# Altium footprint library AP3032KTR-G1.PcbLib: 1 footprints
Each footprint in its own frame and in the unit in brackets; x right, y up, seen from the top. Pads: shape width x height; smd on the part's side, far side on the other; paste and mask are expansions set on the pad; w line width, h text height; cw(c..) or ccw(c..) is an arc to the next point about the centre after c.
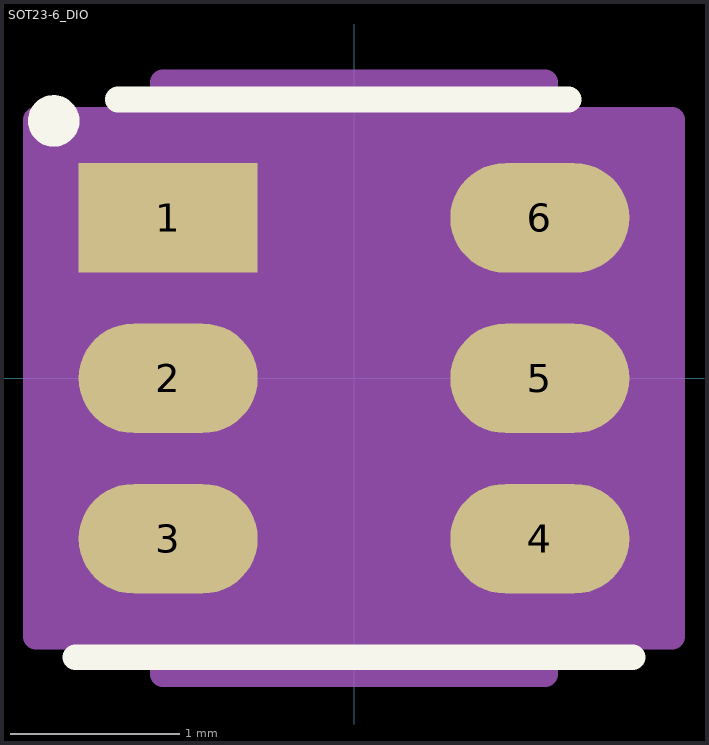
[diagram p0: the footprint, top view; thin cyan lines are the x and y axes]

## SOT23-6_DIO [mm]
pads (6):
  rect 1.06x0.65 smd paste+0 mask+0: 1(-1.1,0.95)
  oval 1.06x0.65 smd paste+0 mask+0: 2(-1.1,0) 3(-1.1,-0.95) 4(1.1,-0.95) 5(1.1,0) 6(1.1,0.95)
Top Overlay:
  circle w0.152: c-1.778,1.524 r0.076
  lines w0.152: -1.651,-1.651 1.651,-1.651 ; -1.397,1.651 1.27,1.651
Mechanical 13:
  circle w0: c-0.622,0.95 r0.038
  lines w0: -0.305,1.499 ccw(c0,1.499) 0.305,1.499
  lines w0.025: -0.876,-1.499 -0.876,1.499 0.876,1.499 0.876,-1.499 -0.876,-1.499
Mechanical 15:
  region: -1.13,-1.529 -1.884,-1.529 -1.884,1.529 -1.13,1.529 -1.13,1.753 1.13,1.753 1.13,1.529 1.884,1.529 1.884,-1.529 1.13,-1.529 1.13,-1.753 -1.13,-1.753
  lines w0.152: -1.884,-1.529 -1.13,-1.529 -1.13,-1.753 1.13,-1.753 1.13,-1.529 1.884,-1.529 1.884,1.529 1.13,1.529 1.13,1.753 -1.13,1.753 -1.13,1.529 -1.884,1.529 -1.884,-1.529
3D body "SOT23-6_DIO.step": height 1.45, standoff 0, extent -1.28,-1.499 1.28,1.499